# Altium schematic symbol library DF51KB-3P-2DS(800).Schlib: 1 symbol
Pins are listed as number, name and electrical type; pins without a type are passive.

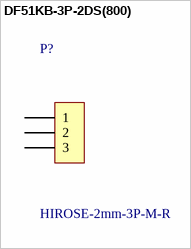
[diagram p0: symbol DF51KB-3P-2DS(800)]

## DF51KB-3P-2DS(800)
designator P?, comment HIROSE-2mm-3P-M-R
Hirose 3 Pin, Right Angle Pin Header
pins: 1, 2, 3